# Altium footprint library NXP.PcbLib: 5 footprints (part 1 of 3)
Each footprint in its own frame and in the unit in brackets; x right, y up, seen from the top. Pads: shape width x height; smd on the part's side, far side on the other; paste and mask are expansions set on the pad; w line width, h text height; cw(c..) or ccw(c..) is an arc to the next point about the centre after c.
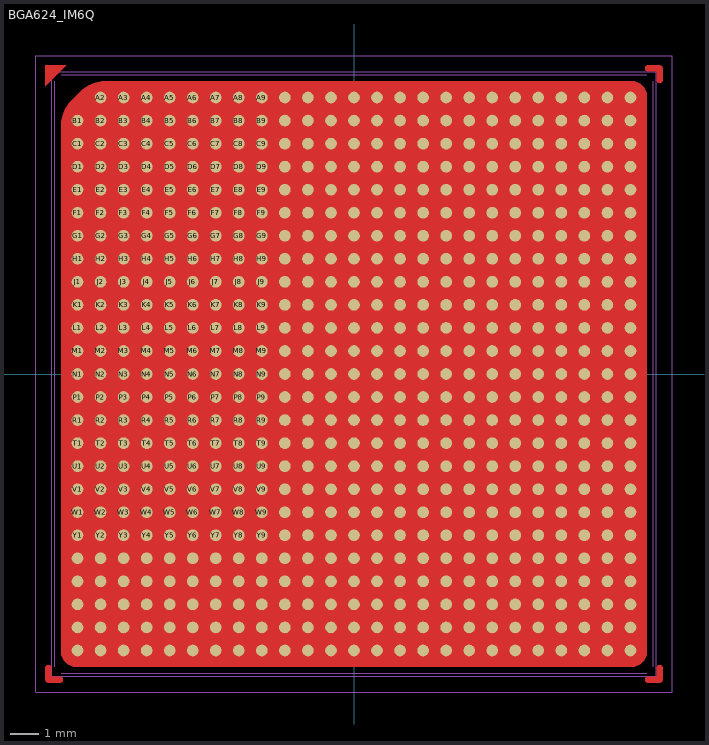
[diagram p0: the footprint, top view; thin cyan lines are the x and y axes]

## BGA624_IM6Q [mil]
pads (624):
  round 16 smd mask+2: A2(-346.46,377.95) A3(-314.96,377.95) A4(-283.46,377.95) A5(-251.97,377.95) A6(-220.47,377.95) A7(-188.98,377.95) A8(-157.48,377.95) A9(-125.98,377.95) A10(-94.49,377.95) A11(-62.99,377.95) A12(-31.5,377.95) A13(0,377.95) A14(31.5,377.95) A15(62.99,377.95) A16(94.49,377.95) A17(125.98,377.95) A18(157.48,377.95) A19(188.98,377.95) A20(220.47,377.95) A21(251.97,377.95) A22(283.46,377.95) A23(314.96,377.95) A24(346.46,377.95) A25(377.95,377.95) AA1(-377.95,-251.97) AA2(-346.46,-251.97) AA3(-314.96,-251.97) AA4(-283.46,-251.97) AA5(-251.97,-251.97) AA6(-220.47,-251.97) AA7(-188.98,-251.97) AA8(-157.48,-251.97) AA9(-125.98,-251.97) AA10(-94.49,-251.97) AA11(-62.99,-251.97) AA12(-31.5,-251.97) AA13(0,-251.97) AA14(31.5,-251.97) AA15(62.99,-251.97) AA16(94.49,-251.97) AA17(125.98,-251.97) AA18(157.48,-251.97) AA19(188.98,-251.97) AA20(220.47,-251.97) AA21(251.97,-251.97) AA22(283.46,-251.97) AA23(314.96,-251.97) AA24(346.46,-251.97) AA25(377.95,-251.97) AB1(-377.95,-283.46) AB2(-346.46,-283.46) AB3(-314.96,-283.46) AB4(-283.46,-283.46) AB5(-251.97,-283.46) AB6(-220.47,-283.46) AB7(-188.98,-283.46) AB8(-157.48,-283.46) AB9(-125.98,-283.46) AB10(-94.49,-283.46) AB11(-62.99,-283.46) AB12(-31.5,-283.46) AB13(0,-283.46) AB14(31.5,-283.46) AB15(62.99,-283.46) AB16(94.49,-283.46) AB17(125.98,-283.46) AB18(157.48,-283.46) AB19(188.98,-283.46) AB20(220.47,-283.46) AB21(251.97,-283.46) AB22(283.46,-283.46) AB23(314.96,-283.46) AB24(346.46,-283.46) AB25(377.95,-283.46) AC1(-377.95,-314.96) AC2(-346.46,-314.96) AC3(-314.96,-314.96) AC4(-283.46,-314.96) AC5(-251.97,-314.96) AC6(-220.47,-314.96) AC7(-188.98,-314.96) AC8(-157.48,-314.96) AC9(-125.98,-314.96) AC10(-94.49,-314.96) AC11(-62.99,-314.96) AC12(-31.5,-314.96) AC13(0,-314.96) AC14(31.5,-314.96) AC15(62.99,-314.96) AC16(94.49,-314.96) AC17(125.98,-314.96) AC18(157.48,-314.96) AC19(188.98,-314.96) AC20(220.47,-314.96) AC21(251.97,-314.96) AC22(283.46,-314.96) AC23(314.96,-314.96) AC24(346.46,-314.96) AC25(377.95,-314.96) AD1(-377.95,-346.46) AD2(-346.46,-346.46) AD3(-314.96,-346.46) AD4(-283.46,-346.46) AD5(-251.97,-346.46) AD6(-220.47,-346.46) AD7(-188.98,-346.46) AD8(-157.48,-346.46) AD9(-125.98,-346.46) AD10(-94.49,-346.46) AD11(-62.99,-346.46) AD12(-31.5,-346.46) AD13(0,-346.46) AD14(31.5,-346.46) AD15(62.99,-346.46) AD16(94.49,-346.46) AD17(125.98,-346.46) AD18(157.48,-346.46) AD19(188.98,-346.46) AD20(220.47,-346.46) AD21(251.97,-346.46) AD22(283.46,-346.46) AD23(314.96,-346.46) AD24(346.46,-346.46) AD25(377.95,-346.46) AE1(-377.95,-377.95) AE2(-346.46,-377.95) AE3(-314.96,-377.95) AE4(-283.46,-377.95) AE5(-251.97,-377.95) AE6(-220.47,-377.95) AE7(-188.98,-377.95) AE8(-157.48,-377.95) AE9(-125.98,-377.95) AE10(-94.49,-377.95) AE11(-62.99,-377.95) AE12(-31.5,-377.95) AE13(0,-377.95) AE14(31.5,-377.95) AE15(62.99,-377.95) AE16(94.49,-377.95) AE17(125.98,-377.95) AE18(157.48,-377.95) AE19(188.98,-377.95) AE20(220.47,-377.95) AE21(251.97,-377.95) AE22(283.46,-377.95) AE23(314.96,-377.95) AE24(346.46,-377.95) AE25(377.95,-377.95) B1(-377.95,346.46) B2(-346.46,346.46) B3(-314.96,346.46) B4(-283.46,346.46) B5(-251.97,346.46) B6(-220.47,346.46) B7(-188.98,346.46) B8(-157.48,346.46) B9(-125.98,346.46) B10(-94.49,346.46) B11(-62.99,346.46) B12(-31.5,346.46) B13(0,346.46) B14(31.5,346.46) B15(62.99,346.46) B16(94.49,346.46) B17(125.98,346.46) B18(157.48,346.46) B19(188.98,346.46) B20(220.47,346.46) B21(251.97,346.46) B22(283.46,346.46) B23(314.96,346.46) B24(346.46,346.46) B25(377.95,346.46) C1(-377.95,314.96) C2(-346.46,314.96) C3(-314.96,314.96) C4(-283.46,314.96) C5(-251.97,314.96) C6(-220.47,314.96) C7(-188.98,314.96) C8(-157.48,314.96) C9(-125.98,314.96) C10(-94.49,314.96) C11(-62.99,314.96) C12(-31.5,314.96) C13(0,314.96) C14(31.5,314.96) C15(62.99,314.96) C16(94.49,314.96) C17(125.98,314.96) C18(157.48,314.96) C19(188.98,314.96) C20(220.47,314.96) C21(251.97,314.96) C22(283.46,314.96) C23(314.96,314.96) C24(346.46,314.96) C25(377.95,314.96) D1(-377.95,283.46) D2(-346.46,283.46) D3(-314.96,283.46) D4(-283.46,283.46) D5(-251.97,283.46) D6(-220.47,283.46) D7(-188.98,283.46) D8(-157.48,283.46) D9(-125.98,283.46) D10(-94.49,283.46) D11(-62.99,283.46) D12(-31.5,283.46) D13(0,283.46) D14(31.5,283.46) D15(62.99,283.46) D16(94.49,283.46) D17(125.98,283.46) D18(157.48,283.46) D19(188.98,283.46) D20(220.47,283.46) D21(251.97,283.46) D22(283.46,283.46) D23(314.96,283.46) D24(346.46,283.46) D25(377.95,283.46) E1(-377.95,251.97) E2(-346.46,251.97) E3(-314.96,251.97) E4(-283.46,251.97) E5(-251.97,251.97) E6(-220.47,251.97) E7(-188.98,251.97) E8(-157.48,251.97) E9(-125.98,251.97) E10(-94.49,251.97) E11(-62.99,251.97) E12(-31.5,251.97) E13(0,251.97) E14(31.5,251.97) E15(62.99,251.97) E16(94.49,251.97) E17(125.98,251.97) E18(157.48,251.97) E19(188.98,251.97) E20(220.47,251.97) E21(251.97,251.97) E22(283.46,251.97) E23(314.96,251.97) E24(346.46,251.97) E25(377.95,251.97) F1(-377.95,220.47) F2(-346.46,220.47) F3(-314.96,220.47) F4(-283.46,220.47) F5(-251.97,220.47) F6(-220.47,220.47) F7(-188.98,220.47) F8(-157.48,220.47) F9(-125.98,220.47) F10(-94.49,220.47) F11(-62.99,220.47) F12(-31.5,220.47) F13(0,220.47) F14(31.5,220.47) F15(62.99,220.47) F16(94.49,220.47) F17(125.98,220.47) F18(157.48,220.47) F19(188.98,220.47) F20(220.47,220.47) F21(251.97,220.47) F22(283.46,220.47) F23(314.96,220.47) F24(346.46,220.47) F25(377.95,220.47) G1(-377.95,188.98) G2(-346.46,188.98) G3(-314.96,188.98) G4(-283.46,188.98) G5(-251.97,188.98) G6(-220.47,188.98) G7(-188.98,188.98) G8(-157.48,188.98) G9(-125.98,188.98) G10(-94.49,188.98) G11(-62.99,188.98) G12(-31.5,188.98) G13(0,188.98) G14(31.5,188.98) G15(62.99,188.98) G16(94.49,188.98) G17(125.98,188.98) G18(157.48,188.98) G19(188.98,188.98) G20(220.47,188.98) G21(251.97,188.98) G22(283.46,188.98) G23(314.96,188.98) G24(346.46,188.98) G25(377.95,188.98) H1(-377.95,157.48) H2(-346.46,157.48) H3(-314.96,157.48) H4(-283.46,157.48) H5(-251.97,157.48) H6(-220.47,157.48) H7(-188.98,157.48) H8(-157.48,157.48) H9(-125.98,157.48) H10(-94.49,157.48) H11(-62.99,157.48) H12(-31.5,157.48) H13(0,157.48) H14(31.5,157.48) H15(62.99,157.48) H16(94.49,157.48) H17(125.98,157.48) H18(157.48,157.48) H19(188.98,157.48) H20(220.47,157.48) H21(251.97,157.48) H22(283.46,157.48) H23(314.96,157.48) H24(346.46,157.48) H25(377.95,157.48) J1(-377.95,125.98) J2(-346.46,125.98) J3(-314.96,125.98) J4(-283.46,125.98) J5(-251.97,125.98) J6(-220.47,125.98) J7(-188.98,125.98) J8(-157.48,125.98) J9(-125.98,125.98) J10(-94.49,125.98) J11(-62.99,125.98) J12(-31.5,125.98) J13(0,125.98) J14(31.5,125.98) J15(62.99,125.98) J16(94.49,125.98) J17(125.98,125.98) J18(157.48,125.98) J19(188.98,125.98) J20(220.47,125.98) J21(251.97,125.98) J22(283.46,125.98) J23(314.96,125.98) J24(346.46,125.98) J25(377.95,125.98) K1(-377.95,94.49) K2(-346.46,94.49) K3(-314.96,94.49) K4(-283.46,94.49) K5(-251.97,94.49) K6(-220.47,94.49) K7(-188.98,94.49) K8(-157.48,94.49) K9(-125.98,94.49) K10(-94.49,94.49) K11(-62.99,94.49) K12(-31.5,94.49) K13(0,94.49) K14(31.5,94.49) K15(62.99,94.49) K16(94.49,94.49) K17(125.98,94.49) K18(157.48,94.49) K19(188.98,94.49) K20(220.47,94.49) K21(251.97,94.49) K22(283.46,94.49) K23(314.96,94.49) K24(346.46,94.49) K25(377.95,94.49) L1(-377.95,62.99) L2(-346.46,62.99) L3(-314.96,62.99) L4(-283.46,62.99) L5(-251.97,62.99) L6(-220.47,62.99) L7(-188.98,62.99) L8(-157.48,62.99) L9(-125.98,62.99) L10(-94.49,62.99) L11(-62.99,62.99) L12(-31.5,62.99) L13(0,62.99) L14(31.5,62.99) L15(62.99,62.99) L16(94.49,62.99) L17(125.98,62.99) L18(157.48,62.99) L19(188.98,62.99) L20(220.47,62.99) L21(251.97,62.99) L22(283.46,62.99) L23(314.96,62.99) L24(346.46,62.99) L25(377.95,62.99) M1(-377.95,31.5) M2(-346.46,31.5) M3(-314.96,31.5) M4(-283.46,31.5) M5(-251.97,31.5) M6(-220.47,31.5) M7(-188.98,31.5) M8(-157.48,31.5) M9(-125.98,31.5) M10(-94.49,31.5) M11(-62.99,31.5) M12(-31.5,31.5) M13(0,31.5) M14(31.5,31.5) M15(62.99,31.5) M16(94.49,31.5) M17(125.98,31.5) M18(157.48,31.5) M19(188.98,31.5) M20(220.47,31.5) M21(251.97,31.5) M22(283.46,31.5) M23(314.96,31.5) M24(346.46,31.5) M25(377.95,31.5) N1(-377.95,0) N2(-346.46,0) N3(-314.96,0) N4(-283.46,0) N5(-251.97,0) N6(-220.47,0) N7(-188.98,0) N8(-157.48,0) N9(-125.98,0) N10(-94.49,0) N11(-62.99,0) N12(-31.5,0) N13(0,0) N14(31.5,0) N15(62.99,0) N16(94.49,0) N17(125.98,0) N18(157.48,0) N19(188.98,0) N20(220.47,0) N21(251.97,0) N22(283.46,0) N23(314.96,0) N24(346.46,0) N25(377.95,0) P1(-377.95,-31.5) P2(-346.46,-31.5) P3(-314.96,-31.5) P4(-283.46,-31.5) P5(-251.97,-31.5) P6(-220.47,-31.5) P7(-188.98,-31.5) P8(-157.48,-31.5) P9(-125.98,-31.5) P10(-94.49,-31.5) P11(-62.99,-31.5) P12(-31.5,-31.5) P13(0,-31.5) P14(31.5,-31.5) P15(62.99,-31.5) P16(94.49,-31.5) P17(125.98,-31.5) P18(157.48,-31.5) P19(188.98,-31.5) P20(220.47,-31.5) P21(251.97,-31.5) P22(283.46,-31.5) P23(314.96,-31.5) P24(346.46,-31.5) P25(377.95,-31.5) R1(-377.95,-62.99) R2(-346.46,-62.99) R3(-314.96,-62.99) R4(-283.46,-62.99) R5(-251.97,-62.99) R6(-220.47,-62.99) R7(-188.98,-62.99) R8(-157.48,-62.99) R9(-125.98,-62.99) R10(-94.49,-62.99) R11(-62.99,-62.99) R12(-31.5,-62.99) R13(0,-62.99) R14(31.5,-62.99) R15(62.99,-62.99) R16(94.49,-62.99) R17(125.98,-62.99) R18(157.48,-62.99) R19(188.98,-62.99) R20(220.47,-62.99) R21(251.97,-62.99) R22(283.46,-62.99) R23(314.96,-62.99) R24(346.46,-62.99) R25(377.95,-62.99) T1(-377.95,-94.49) T2(-346.46,-94.49) T3(-314.96,-94.49) T4(-283.46,-94.49) T5(-251.97,-94.49) T6(-220.47,-94.49) T7(-188.98,-94.49) T8(-157.48,-94.49) T9(-125.98,-94.49) T10(-94.49,-94.49) T11(-62.99,-94.49) T12(-31.5,-94.49) T13(0,-94.49) T14(31.5,-94.49) T15(62.99,-94.49) T16(94.49,-94.49) T17(125.98,-94.49) T18(157.48,-94.49) T19(188.98,-94.49) T20(220.47,-94.49) T21(251.97,-94.49) T22(283.46,-94.49) T23(314.96,-94.49) T24(346.46,-94.49) T25(377.95,-94.49) U1(-377.95,-125.98) U2(-346.46,-125.98) U3(-314.96,-125.98) U4(-283.46,-125.98) U5(-251.97,-125.98) U6(-220.47,-125.98) U7(-188.98,-125.98) U8(-157.48,-125.98) U9(-125.98,-125.98) U10(-94.49,-125.98) U11(-62.99,-125.98) U12(-31.5,-125.98) U13(0,-125.98) U14(31.5,-125.98) U15(62.99,-125.98) U16(94.49,-125.98) U17(125.98,-125.98) U18(157.48,-125.98) U19(188.98,-125.98) U20(220.47,-125.98) U21(251.97,-125.98) U22(283.46,-125.98) U23(314.96,-125.98) U24(346.46,-125.98) U25(377.95,-125.98) V1(-377.95,-157.48) V2(-346.46,-157.48) V3(-314.96,-157.48) V4(-283.46,-157.48) V5(-251.97,-157.48) V6(-220.47,-157.48) V7(-188.98,-157.48) V8(-157.48,-157.48) V9(-125.98,-157.48) V10(-94.49,-157.48) V11(-62.99,-157.48) V12(-31.5,-157.48) V13(0,-157.48) V14(31.5,-157.48) V15(62.99,-157.48) V16(94.49,-157.48) V17(125.98,-157.48) V18(157.48,-157.48) V19(188.98,-157.48) V20(220.47,-157.48) V21(251.97,-157.48) V22(283.46,-157.48) V23(314.96,-157.48) V24(346.46,-157.48) V25(377.95,-157.48) W1(-377.95,-188.98) W2(-346.46,-188.98) W3(-314.96,-188.98) W4(-283.46,-188.98) W5(-251.97,-188.98) W6(-220.47,-188.98) W7(-188.98,-188.98) W8(-157.48,-188.98) W9(-125.98,-188.98) W10(-94.49,-188.98) W11(-62.99,-188.98) W12(-31.5,-188.98) W13(0,-188.98) W14(31.5,-188.98) W15(62.99,-188.98) W16(94.49,-188.98) W17(125.98,-188.98) W18(157.48,-188.98) W19(188.98,-188.98) W20(220.47,-188.98) W21(251.97,-188.98) W22(283.46,-188.98) W23(314.96,-188.98) W24(346.46,-188.98) W25(377.95,-188.98) Y1(-377.95,-220.47) Y2(-346.46,-220.47) Y3(-314.96,-220.47) Y4(-283.46,-220.47) Y5(-251.97,-220.47) Y6(-220.47,-220.47) Y7(-188.98,-220.47) Y8(-157.48,-220.47) Y9(-125.98,-220.47) Y10(-94.49,-220.47) Y11(-62.99,-220.47) Y12(-31.5,-220.47) Y13(0,-220.47) Y14(31.5,-220.47) Y15(62.99,-220.47) Y16(94.49,-220.47) Y17(125.98,-220.47) Y18(157.48,-220.47) Y19(188.98,-220.47) Y20(220.47,-220.47) Y21(251.97,-220.47) Y22(283.46,-220.47) Y23(314.96,-220.47) Y24(346.46,-220.47) Y25(377.95,-220.47)
Top Layer:
  region: -421.85,421.85 -421.85,393.31 -393.31,421.85
  region: 413.85,401.85 413.85,401.05 414.46,399.58 415.59,398.46 417.06,397.85 417.85,397.85 418.65,397.85 420.12,398.46 421.24,399.58 421.85,401.05 421.85,401.85 421.85,417.85 421.85,418.65 421.24,420.12 420.12,421.24 418.65,421.85 417.85,421.85 401.85,421.85 401.06,421.85 399.59,421.24 398.46,420.12 397.85,418.65 397.85,417.85 397.85,417.05 398.46,415.58 399.59,414.46 401.06,413.85 401.85,413.85 411.85,413.85 412.24,413.81 412.96,413.51 413.51,412.96 413.81,412.24 413.85,411.85
  region: 401.85,-413.85 401.06,-413.85 399.59,-414.46 398.46,-415.58 397.85,-417.05 397.85,-417.85 397.85,-418.65 398.46,-420.12 399.59,-421.24 401.06,-421.85 401.85,-421.85 417.85,-421.85 418.65,-421.85 420.12,-421.24 421.24,-420.12 421.85,-418.65 421.85,-417.85 421.85,-401.85 421.85,-401.05 421.24,-399.58 420.12,-398.46 418.65,-397.85 417.85,-397.85 417.06,-397.85 415.59,-398.46 414.46,-399.58 413.85,-401.05 413.85,-401.85 413.85,-411.85 413.81,-412.24 413.51,-412.96 412.96,-413.51 412.24,-413.81 411.85,-413.85
  region: -413.85,-401.85 -413.85,-401.05 -414.46,-399.58 -415.58,-398.46 -417.05,-397.85 -417.85,-397.85 -418.65,-397.85 -420.12,-398.46 -421.24,-399.58 -421.85,-401.05 -421.85,-401.85 -421.85,-417.85 -421.85,-418.65 -421.24,-420.12 -420.12,-421.24 -418.65,-421.85 -417.85,-421.85 -401.85,-421.85 -401.05,-421.85 -399.58,-421.24 -398.46,-420.12 -397.85,-418.65 -397.85,-417.85 -397.85,-417.05 -398.46,-415.58 -399.58,-414.46 -401.05,-413.85 -401.85,-413.85 -411.85,-413.85 -412.24,-413.81 -412.96,-413.51 -413.51,-412.96 -413.81,-412.24 -413.85,-411.85
  pour cut-out: -340,400 -344.76,400 -354.08,398.14 -362.87,394.5 -370.78,389.22 -374.14,385.86 -385.86,374.14 -389.22,370.78 -394.5,362.87 -398.14,354.08 -400,344.76 -400,340 -400,-380 -400,-383.98 -396.96,-391.33 -391.33,-396.96 -383.98,-400 -380,-400 380,-400 383.98,-400 391.33,-396.96 396.96,-391.33 400,-383.98 400,-380 400,380 400,383.98 396.96,391.33 391.33,396.96 383.98,400 380,400
Top Designator:
  text ".Designator" at -127.64,-12.5 h35
Top Component Center:
  lines w1: -3,-3 0,0 ; -3,3 0,0 ; 3,-3 0,0 ; 3,3 0,0
Top Courtyard:
  lines w1: -435,-435 435,-435 435,435 -435,435 -435,-435
Top Component Outline:
  lines w1: -409.45,-400 -409.45,400 ; -400,-409.45 400,-409.45 ; -400,409.45 400,409.45 ; -318.9,-290 -318.9,290 ; -290,-318.9 290,-318.9 ; -290,318.9 290,318.9 ; 318.9,-290 318.9,290 ; 409.45,-400 409.45,400 ; -413.39,-413.39 413.39,-413.39 413.39,413.39 -413.39,413.39 -413.39,-413.39
3D body: height 59.1, standoff 59, extent -389.88,360.04 -360,389.98
3D body: height 41.73, standoff 15.75, extent -413.39,-413.39 413.39,413.39
3D body: height 16.84, standoff -2.84, extent -356.26,368.22 -336.66,387.8
3D body: height 16.84, standoff -2.84, extent -324.76,368.22 -305.16,387.8
3D body: height 16.84, standoff -2.84, extent -293.27,368.22 -273.67,387.8
3D body: height 16.84, standoff -2.84, extent -261.77,368.22 -242.17,387.8
3D body: height 16.84, standoff -2.84, extent -135.79,368.22 -116.19,387.8
3D body: height 16.84, standoff -2.84, extent -167.28,368.22 -147.68,387.8
3D body: height 16.84, standoff -2.84, extent -198.78,368.22 -179.18,387.8
3D body: height 16.84, standoff -2.84, extent -230.28,368.22 -210.67,387.8
3D body: height 16.84, standoff -2.84, extent -9.8,368.22 9.8,387.8
3D body: height 16.84, standoff -2.84, extent -41.3,368.22 -21.7,387.8
3D body: height 16.84, standoff -2.84, extent -72.8,368.22 -53.19,387.8
3D body: height 16.84, standoff -2.84, extent -104.29,368.22 -84.69,387.8
3D body: height 16.84, standoff -2.84, extent 116.18,368.22 135.78,387.8
3D body: height 16.84, standoff -2.84, extent 84.68,368.22 104.29,387.8
3D body: height 16.84, standoff -2.84, extent 53.19,368.22 72.79,387.8
3D body: height 16.84, standoff -2.84, extent 21.69,368.22 41.3,387.8
3D body: height 16.84, standoff -2.84, extent 242.16,368.22 261.77,387.8
3D body: height 16.84, standoff -2.84, extent 210.67,368.22 230.27,387.8
3D body: height 16.84, standoff -2.84, extent 179.17,368.22 198.78,387.8
3D body: height 16.84, standoff -2.84, extent 147.68,368.22 167.28,387.8
3D body: height 16.84, standoff -2.84, extent 368.15,368.22 387.75,387.8
3D body: height 16.84, standoff -2.84, extent 336.65,368.22 356.26,387.8
3D body: height 16.84, standoff -2.84, extent 305.16,368.22 324.76,387.8
3D body: height 16.84, standoff -2.84, extent 273.66,368.22 293.26,387.8
3D body: height 16.84, standoff -2.84, extent 273.66,336.72 293.26,356.31
3D body: height 16.84, standoff -2.84, extent 305.16,336.72 324.76,356.31
3D body: height 16.84, standoff -2.84, extent 336.65,336.72 356.26,356.31
3D body: height 16.84, standoff -2.84, extent 368.15,336.72 387.75,356.31
3D body: height 16.84, standoff -2.84, extent 147.68,336.72 167.28,356.31
3D body: height 16.84, standoff -2.84, extent 179.17,336.72 198.78,356.31
3D body: height 16.84, standoff -2.84, extent 210.67,336.72 230.27,356.31
3D body: height 16.84, standoff -2.84, extent 242.16,336.72 261.77,356.31
3D body: height 16.84, standoff -2.84, extent 21.69,336.72 41.3,356.31
3D body: height 16.84, standoff -2.84, extent 53.19,336.72 72.79,356.31
3D body: height 16.84, standoff -2.84, extent 84.68,336.72 104.29,356.31
3D body: height 16.84, standoff -2.84, extent 116.18,336.72 135.78,356.31
3D body: height 16.84, standoff -2.84, extent -104.29,336.72 -84.69,356.31
3D body: height 16.84, standoff -2.84, extent -72.8,336.72 -53.19,356.31
3D body: height 16.84, standoff -2.84, extent -41.3,336.72 -21.7,356.31
3D body: height 16.84, standoff -2.84, extent -9.8,336.72 9.8,356.31
3D body: height 16.84, standoff -2.84, extent -230.28,336.72 -210.67,356.31
3D body: height 16.84, standoff -2.84, extent -198.78,336.72 -179.18,356.31
3D body: height 16.84, standoff -2.84, extent -167.28,336.72 -147.68,356.31
3D body: height 16.84, standoff -2.84, extent -135.79,336.72 -116.19,356.31
3D body: height 16.84, standoff -2.84, extent -261.77,336.72 -242.17,356.31
3D body: height 16.84, standoff -2.84, extent -293.27,336.72 -273.67,356.31
3D body: height 16.84, standoff -2.84, extent -324.76,336.72 -305.16,356.31
3D body: height 16.84, standoff -2.84, extent -356.26,336.72 -336.66,356.31
3D body: height 16.84, standoff -2.84, extent 273.66,305.23 293.26,324.81
3D body: height 16.84, standoff -2.84, extent 305.16,305.23 324.76,324.81
3D body: height 16.84, standoff -2.84, extent 336.65,305.23 356.26,324.81
3D body: height 16.84, standoff -2.84, extent 368.15,305.23 387.75,324.81
3D body: height 16.84, standoff -2.84, extent 147.68,305.23 167.28,324.81
3D body: height 16.84, standoff -2.84, extent 179.17,305.23 198.78,324.81
3D body: height 16.84, standoff -2.84, extent 210.67,305.23 230.27,324.81
3D body: height 16.84, standoff -2.84, extent 242.16,305.23 261.77,324.81
3D body: height 16.84, standoff -2.84, extent 21.69,305.23 41.3,324.81
3D body: height 16.84, standoff -2.84, extent 53.19,305.23 72.79,324.81
3D body: height 16.84, standoff -2.84, extent 84.68,305.23 104.29,324.81
3D body: height 16.84, standoff -2.84, extent 116.18,305.23 135.78,324.81
3D body: height 16.84, standoff -2.84, extent -104.29,305.23 -84.69,324.81
3D body: height 16.84, standoff -2.84, extent -72.8,305.23 -53.19,324.81
3D body: height 16.84, standoff -2.84, extent -41.3,305.23 -21.7,324.81
3D body: height 16.84, standoff -2.84, extent -9.8,305.23 9.8,324.81
3D body: height 16.84, standoff -2.84, extent -230.28,305.23 -210.67,324.81
3D body: height 16.84, standoff -2.84, extent -198.78,305.23 -179.18,324.81
3D body: height 16.84, standoff -2.84, extent -167.28,305.23 -147.68,324.81
3D body: height 16.84, standoff -2.84, extent -135.79,305.23 -116.19,324.81
3D body: height 16.84, standoff -2.84, extent -261.77,305.23 -242.17,324.81
3D body: height 16.84, standoff -2.84, extent -293.27,305.23 -273.67,324.81
3D body: height 16.84, standoff -2.84, extent -324.76,305.23 -305.16,324.81
3D body: height 16.84, standoff -2.84, extent -356.26,305.23 -336.66,324.81
3D body: height 16.84, standoff -2.84, extent 273.66,273.73 293.26,293.31
3D body: height 16.84, standoff -2.84, extent 305.16,273.73 324.76,293.31
3D body: height 16.84, standoff -2.84, extent 336.65,273.73 356.26,293.31
3D body: height 16.84, standoff -2.84, extent 368.15,273.73 387.75,293.31
3D body: height 16.84, standoff -2.84, extent 147.68,273.73 167.28,293.31
3D body: height 16.84, standoff -2.84, extent 179.17,273.73 198.78,293.31
3D body: height 16.84, standoff -2.84, extent 210.67,273.73 230.27,293.31
3D body: height 16.84, standoff -2.84, extent 242.16,273.73 261.77,293.31
3D body: height 16.84, standoff -2.84, extent 21.69,273.73 41.3,293.31
3D body: height 16.84, standoff -2.84, extent 53.19,273.73 72.79,293.31
3D body: height 16.84, standoff -2.84, extent 84.68,273.73 104.29,293.31
3D body: height 16.84, standoff -2.84, extent 116.18,273.73 135.78,293.31
3D body: height 16.84, standoff -2.84, extent -104.29,273.73 -84.69,293.31
3D body: height 16.84, standoff -2.84, extent -72.8,273.73 -53.19,293.31
3D body: height 16.84, standoff -2.84, extent -41.3,273.73 -21.7,293.31
3D body: height 16.84, standoff -2.84, extent -9.8,273.73 9.8,293.31
3D body: height 16.84, standoff -2.84, extent -230.28,273.73 -210.67,293.31
3D body: height 16.84, standoff -2.84, extent -198.78,273.73 -179.18,293.31
3D body: height 16.84, standoff -2.84, extent -167.28,273.73 -147.68,293.31
3D body: height 16.84, standoff -2.84, extent -135.79,273.73 -116.19,293.31
3D body: height 16.84, standoff -2.84, extent -261.77,273.73 -242.17,293.31
3D body: height 16.84, standoff -2.84, extent -293.27,273.73 -273.67,293.31
3D body: height 16.84, standoff -2.84, extent -324.76,273.73 -305.16,293.31
3D body: height 16.84, standoff -2.84, extent -356.26,273.73 -336.66,293.31
3D body: height 16.84, standoff -2.84, extent 273.66,242.23 293.26,261.82
3D body: height 16.84, standoff -2.84, extent 305.16,242.23 324.76,261.82
3D body: height 16.84, standoff -2.84, extent 336.65,242.23 356.26,261.82
3D body: height 16.84, standoff -2.84, extent 368.15,242.23 387.75,261.82
3D body: height 16.84, standoff -2.84, extent 147.68,242.23 167.28,261.82
3D body: height 16.84, standoff -2.84, extent 179.17,242.23 198.78,261.82
3D body: height 16.84, standoff -2.84, extent 210.67,242.23 230.27,261.82
3D body: height 16.84, standoff -2.84, extent 242.16,242.23 261.77,261.82
3D body: height 16.84, standoff -2.84, extent 21.69,242.23 41.3,261.82
3D body: height 16.84, standoff -2.84, extent 53.19,242.23 72.79,261.82
3D body: height 16.84, standoff -2.84, extent 84.68,242.23 104.29,261.82
3D body: height 16.84, standoff -2.84, extent 116.18,242.23 135.78,261.82
3D body: height 16.84, standoff -2.84, extent -104.29,242.23 -84.69,261.82
3D body: height 16.84, standoff -2.84, extent -72.8,242.23 -53.19,261.82
3D body: height 16.84, standoff -2.84, extent -41.3,242.23 -21.7,261.82
3D body: height 16.84, standoff -2.84, extent -9.8,242.23 9.8,261.82
3D body: height 16.84, standoff -2.84, extent -230.28,242.23 -210.67,261.82
3D body: height 16.84, standoff -2.84, extent -198.78,242.23 -179.18,261.82
3D body: height 16.84, standoff -2.84, extent -167.28,242.23 -147.68,261.82
3D body: height 16.84, standoff -2.84, extent -135.79,242.23 -116.19,261.82
3D body: height 16.84, standoff -2.84, extent -261.77,242.23 -242.17,261.82
3D body: height 16.84, standoff -2.84, extent -293.27,242.23 -273.67,261.82
3D body: height 16.84, standoff -2.84, extent -324.76,242.23 -305.16,261.82
3D body: height 16.84, standoff -2.84, extent -356.26,242.23 -336.66,261.82
3D body: height 16.84, standoff -2.84, extent -356.26,84.75 -336.66,104.34
3D body: height 16.84, standoff -2.84, extent -324.76,84.75 -305.16,104.34
3D body: height 16.84, standoff -2.84, extent -293.27,84.75 -273.67,104.34
3D body: height 16.84, standoff -2.84, extent -261.77,84.75 -242.17,104.34
3D body: height 16.84, standoff -2.84, extent -135.79,84.75 -116.19,104.34
3D body: height 16.84, standoff -2.84, extent -167.28,84.75 -147.68,104.34
3D body: height 16.84, standoff -2.84, extent -198.78,84.75 -179.18,104.34
3D body: height 16.84, standoff -2.84, extent -230.28,84.75 -210.67,104.34
3D body: height 16.84, standoff -2.84, extent -9.8,84.75 9.8,104.34
3D body: height 16.84, standoff -2.84, extent -41.3,84.75 -21.7,104.34
3D body: height 16.84, standoff -2.84, extent -72.8,84.75 -53.19,104.34
3D body: height 16.84, standoff -2.84, extent -104.29,84.75 -84.69,104.34
3D body: height 16.84, standoff -2.84, extent 116.18,84.75 135.78,104.34
3D body: height 16.84, standoff -2.84, extent 84.68,84.75 104.29,104.34
3D body: height 16.84, standoff -2.84, extent 53.19,84.75 72.79,104.34
3D body: height 16.84, standoff -2.84, extent 21.69,84.75 41.3,104.34
3D body: height 16.84, standoff -2.84, extent 242.16,84.75 261.77,104.34
3D body: height 16.84, standoff -2.84, extent 210.67,84.75 230.27,104.34
3D body: height 16.84, standoff -2.84, extent 179.17,84.75 198.78,104.34
3D body: height 16.84, standoff -2.84, extent 147.68,84.75 167.28,104.34
3D body: height 16.84, standoff -2.84, extent 368.15,84.75 387.75,104.34
3D body: height 16.84, standoff -2.84, extent 336.65,84.75 356.26,104.34
3D body: height 16.84, standoff -2.84, extent 305.16,84.75 324.76,104.34
3D body: height 16.84, standoff -2.84, extent 273.66,84.75 293.26,104.34
3D body: height 16.84, standoff -2.84, extent -356.26,116.25 -336.66,135.83
3D body: height 16.84, standoff -2.84, extent -324.76,116.25 -305.16,135.83
3D body: height 16.84, standoff -2.84, extent -293.27,116.25 -273.67,135.83
3D body: height 16.84, standoff -2.84, extent -261.77,116.25 -242.17,135.83
3D body: height 16.84, standoff -2.84, extent -135.79,116.25 -116.19,135.83
3D body: height 16.84, standoff -2.84, extent -167.28,116.25 -147.68,135.83
3D body: height 16.84, standoff -2.84, extent -198.78,116.25 -179.18,135.83
3D body: height 16.84, standoff -2.84, extent -230.28,116.25 -210.67,135.83
3D body: height 16.84, standoff -2.84, extent -9.8,116.25 9.8,135.83
3D body: height 16.84, standoff -2.84, extent -41.3,116.25 -21.7,135.83
3D body: height 16.84, standoff -2.84, extent -72.8,116.25 -53.19,135.83
3D body: height 16.84, standoff -2.84, extent -104.29,116.25 -84.69,135.83
3D body: height 16.84, standoff -2.84, extent 116.18,116.25 135.78,135.83
3D body: height 16.84, standoff -2.84, extent 84.68,116.25 104.29,135.83
3D body: height 16.84, standoff -2.84, extent 53.19,116.25 72.79,135.83
3D body: height 16.84, standoff -2.84, extent 21.69,116.25 41.3,135.83
3D body: height 16.84, standoff -2.84, extent 242.16,116.25 261.77,135.83
3D body: height 16.84, standoff -2.84, extent 210.67,116.25 230.27,135.83
3D body: height 16.84, standoff -2.84, extent 179.17,116.25 198.78,135.83
3D body: height 16.84, standoff -2.84, extent 147.68,116.25 167.28,135.83
3D body: height 16.84, standoff -2.84, extent 368.15,116.25 387.75,135.83
3D body: height 16.84, standoff -2.84, extent 336.65,116.25 356.26,135.83
3D body: height 16.84, standoff -2.84, extent 305.16,116.25 324.76,135.83
3D body: height 16.84, standoff -2.84, extent 273.66,116.25 293.26,135.83
3D body: height 16.84, standoff -2.84, extent -356.26,147.75 -336.66,167.33
3D body: height 16.84, standoff -2.84, extent -324.76,147.75 -305.16,167.33
3D body: height 16.84, standoff -2.84, extent -293.27,147.75 -273.67,167.33
3D body: height 16.84, standoff -2.84, extent -261.77,147.75 -242.17,167.33
3D body: height 16.84, standoff -2.84, extent -135.79,147.75 -116.19,167.33
3D body: height 16.84, standoff -2.84, extent -167.28,147.75 -147.68,167.33
3D body: height 16.84, standoff -2.84, extent -198.78,147.75 -179.18,167.33
3D body: height 16.84, standoff -2.84, extent -230.28,147.75 -210.67,167.33
3D body: height 16.84, standoff -2.84, extent -9.8,147.75 9.8,167.33
3D body: height 16.84, standoff -2.84, extent -41.3,147.75 -21.7,167.33
3D body: height 16.84, standoff -2.84, extent -72.8,147.75 -53.19,167.33
3D body: height 16.84, standoff -2.84, extent -104.29,147.75 -84.69,167.33
3D body: height 16.84, standoff -2.84, extent 116.18,147.75 135.78,167.33
3D body: height 16.84, standoff -2.84, extent 84.68,147.75 104.29,167.33
3D body: height 16.84, standoff -2.84, extent 53.19,147.75 72.79,167.33
3D body: height 16.84, standoff -2.84, extent 21.69,147.75 41.3,167.33
3D body: height 16.84, standoff -2.84, extent 242.16,147.75 261.77,167.33
3D body: height 16.84, standoff -2.84, extent 210.67,147.75 230.27,167.33
3D body: height 16.84, standoff -2.84, extent 179.17,147.75 198.78,167.33
3D body: height 16.84, standoff -2.84, extent 147.68,147.75 167.28,167.33
3D body: height 16.84, standoff -2.84, extent 368.15,147.75 387.75,167.33
3D body: height 16.84, standoff -2.84, extent 336.65,147.75 356.26,167.33
3D body: height 16.84, standoff -2.84, extent 305.16,147.75 324.76,167.33
3D body: height 16.84, standoff -2.84, extent 273.66,147.75 293.26,167.33
3D body: height 16.84, standoff -2.84, extent -356.26,179.24 -336.66,198.83
3D body: height 16.84, standoff -2.84, extent -324.76,179.24 -305.16,198.83
3D body: height 16.84, standoff -2.84, extent -293.27,179.24 -273.67,198.83
3D body: height 16.84, standoff -2.84, extent -261.77,179.24 -242.17,198.83
3D body: height 16.84, standoff -2.84, extent -135.79,179.24 -116.19,198.83
3D body: height 16.84, standoff -2.84, extent -167.28,179.24 -147.68,198.83
3D body: height 16.84, standoff -2.84, extent -198.78,179.24 -179.18,198.83
3D body: height 16.84, standoff -2.84, extent -230.28,179.24 -210.67,198.83
3D body: height 16.84, standoff -2.84, extent -9.8,179.24 9.8,198.83
3D body: height 16.84, standoff -2.84, extent -41.3,179.24 -21.7,198.83
3D body: height 16.84, standoff -2.84, extent -72.8,179.24 -53.19,198.83
3D body: height 16.84, standoff -2.84, extent -104.29,179.24 -84.69,198.83
3D body: height 16.84, standoff -2.84, extent 116.18,179.24 135.78,198.83
3D body: height 16.84, standoff -2.84, extent 84.68,179.24 104.29,198.83
3D body: height 16.84, standoff -2.84, extent 53.19,179.24 72.79,198.83
3D body: height 16.84, standoff -2.84, extent 21.69,179.24 41.3,198.83
3D body: height 16.84, standoff -2.84, extent 242.16,179.24 261.77,198.83
3D body: height 16.84, standoff -2.84, extent 210.67,179.24 230.27,198.83
3D body: height 16.84, standoff -2.84, extent 179.17,179.24 198.78,198.83
3D body: height 16.84, standoff -2.84, extent 147.68,179.24 167.28,198.83
3D body: height 16.84, standoff -2.84, extent 368.15,179.24 387.75,198.83
3D body: height 16.84, standoff -2.84, extent 336.65,179.24 356.26,198.83
3D body: height 16.84, standoff -2.84, extent 305.16,179.24 324.76,198.83
3D body: height 16.84, standoff -2.84, extent 273.66,179.24 293.26,198.83
3D body: height 16.84, standoff -2.84, extent 273.66,210.74 293.26,230.32
3D body: height 16.84, standoff -2.84, extent 305.16,210.74 324.76,230.32
3D body: height 16.84, standoff -2.84, extent 336.65,210.74 356.26,230.32
3D body: height 16.84, standoff -2.84, extent 368.15,210.74 387.75,230.32
3D body: height 16.84, standoff -2.84, extent 147.68,210.74 167.28,230.32
3D body: height 16.84, standoff -2.84, extent 179.17,210.74 198.78,230.32
3D body: height 16.84, standoff -2.84, extent 210.67,210.74 230.27,230.32
3D body: height 16.84, standoff -2.84, extent 242.16,210.74 261.77,230.32
3D body: height 16.84, standoff -2.84, extent 21.69,210.74 41.3,230.32
3D body: height 16.84, standoff -2.84, extent 53.19,210.74 72.79,230.32
3D body: height 16.84, standoff -2.84, extent 84.68,210.74 104.29,230.32
3D body: height 16.84, standoff -2.84, extent 116.18,210.74 135.78,230.32
3D body: height 16.84, standoff -2.84, extent -104.29,210.74 -84.69,230.32
3D body: height 16.84, standoff -2.84, extent -72.8,210.74 -53.19,230.32
3D body: height 16.84, standoff -2.84, extent -41.3,210.74 -21.7,230.32
3D body: height 16.84, standoff -2.84, extent -9.8,210.74 9.8,230.32
3D body: height 16.84, standoff -2.84, extent -230.28,210.74 -210.67,230.32
3D body: height 16.84, standoff -2.84, extent -198.78,210.74 -179.18,230.32
3D body: height 16.84, standoff -2.84, extent -167.28,210.74 -147.68,230.32
3D body: height 16.84, standoff -2.84, extent -135.79,210.74 -116.19,230.32
3D body: height 16.84, standoff -2.84, extent -261.77,210.74 -242.17,230.32
3D body: height 16.84, standoff -2.84, extent -293.27,210.74 -273.67,230.32
3D body: height 16.84, standoff -2.84, extent -324.76,210.74 -305.16,230.32
3D body: height 16.84, standoff -2.84, extent -356.26,210.74 -336.66,230.32
3D body: height 16.84, standoff -2.84, extent -356.26,-72.73 -336.66,-53.14
3D body: height 16.84, standoff -2.84, extent -324.76,-72.73 -305.16,-53.14
3D body: height 16.84, standoff -2.84, extent -293.27,-72.73 -273.67,-53.14
3D body: height 16.84, standoff -2.84, extent -261.77,-72.73 -242.17,-53.14
3D body: height 16.84, standoff -2.84, extent -135.79,-72.73 -116.19,-53.14
3D body: height 16.84, standoff -2.84, extent -167.28,-72.73 -147.68,-53.14
3D body: height 16.84, standoff -2.84, extent -198.78,-72.73 -179.18,-53.14
3D body: height 16.84, standoff -2.84, extent -230.28,-72.73 -210.67,-53.14
3D body: height 16.84, standoff -2.84, extent -9.8,-72.73 9.8,-53.14
3D body: height 16.84, standoff -2.84, extent -41.3,-72.73 -21.7,-53.14
3D body: height 16.84, standoff -2.84, extent -72.8,-72.73 -53.19,-53.14
3D body: height 16.84, standoff -2.84, extent -104.29,-72.73 -84.69,-53.14
3D body: height 16.84, standoff -2.84, extent 116.18,-72.73 135.78,-53.14
3D body: height 16.84, standoff -2.84, extent 84.68,-72.73 104.29,-53.14
3D body: height 16.84, standoff -2.84, extent 53.19,-72.73 72.79,-53.14
3D body: height 16.84, standoff -2.84, extent 21.69,-72.73 41.3,-53.14
3D body: height 16.84, standoff -2.84, extent 242.16,-72.73 261.77,-53.14
3D body: height 16.84, standoff -2.84, extent 210.67,-72.73 230.27,-53.14
3D body: height 16.84, standoff -2.84, extent 179.17,-72.73 198.78,-53.14
3D body: height 16.84, standoff -2.84, extent 147.68,-72.73 167.28,-53.14
3D body: height 16.84, standoff -2.84, extent 368.15,-72.73 387.75,-53.14
3D body: height 16.84, standoff -2.84, extent 336.65,-72.73 356.26,-53.14
3D body: height 16.84, standoff -2.84, extent 305.16,-72.73 324.76,-53.14
3D body: height 16.84, standoff -2.84, extent 273.66,-72.73 293.26,-53.14
3D body: height 16.84, standoff -2.84, extent -356.26,-41.23 -336.66,-21.65
3D body: height 16.84, standoff -2.84, extent -324.76,-41.23 -305.16,-21.65
3D body: height 16.84, standoff -2.84, extent -293.27,-41.23 -273.67,-21.65
3D body: height 16.84, standoff -2.84, extent -261.77,-41.23 -242.17,-21.65
3D body: height 16.84, standoff -2.84, extent -135.79,-41.23 -116.19,-21.65
3D body: height 16.84, standoff -2.84, extent -167.28,-41.23 -147.68,-21.65
3D body: height 16.84, standoff -2.84, extent -198.78,-41.23 -179.18,-21.65
3D body: height 16.84, standoff -2.84, extent -230.28,-41.23 -210.67,-21.65
3D body: height 16.84, standoff -2.84, extent -9.8,-41.23 9.8,-21.65
3D body: height 16.84, standoff -2.84, extent -41.3,-41.23 -21.7,-21.65
3D body: height 16.84, standoff -2.84, extent -72.8,-41.23 -53.19,-21.65
3D body: height 16.84, standoff -2.84, extent -104.29,-41.23 -84.69,-21.65
3D body: height 16.84, standoff -2.84, extent 116.18,-41.23 135.78,-21.65
3D body: height 16.84, standoff -2.84, extent 84.68,-41.23 104.29,-21.65
3D body: height 16.84, standoff -2.84, extent 53.19,-41.23 72.79,-21.65
3D body: height 16.84, standoff -2.84, extent 21.69,-41.23 41.3,-21.65
3D body: height 16.84, standoff -2.84, extent 242.16,-41.23 261.77,-21.65
3D body: height 16.84, standoff -2.84, extent 210.67,-41.23 230.27,-21.65
3D body: height 16.84, standoff -2.84, extent 179.17,-41.23 198.78,-21.65
3D body: height 16.84, standoff -2.84, extent 147.68,-41.23 167.28,-21.65
3D body: height 16.84, standoff -2.84, extent 368.15,-41.23 387.75,-21.65
3D body: height 16.84, standoff -2.84, extent 336.65,-41.23 356.26,-21.65
3D body: height 16.84, standoff -2.84, extent 305.16,-41.23 324.76,-21.65
3D body: height 16.84, standoff -2.84, extent 273.66,-41.23 293.26,-21.65
3D body: height 16.84, standoff -2.84, extent -356.26,-9.73 -336.66,9.85
3D body: height 16.84, standoff -2.84, extent -324.76,-9.73 -305.16,9.85
3D body: height 16.84, standoff -2.84, extent -293.27,-9.73 -273.67,9.85
3D body: height 16.84, standoff -2.84, extent -261.77,-9.73 -242.17,9.85
3D body: height 16.84, standoff -2.84, extent -135.79,-9.73 -116.19,9.85
3D body: height 16.84, standoff -2.84, extent -167.28,-9.73 -147.68,9.85
3D body: height 16.84, standoff -2.84, extent -198.78,-9.73 -179.18,9.85
3D body: height 16.84, standoff -2.84, extent -230.28,-9.73 -210.67,9.85
3D body: height 16.84, standoff -2.84, extent -9.8,-9.73 9.8,9.85
3D body: height 16.84, standoff -2.84, extent -41.3,-9.73 -21.7,9.85
3D body: height 16.84, standoff -2.84, extent -72.8,-9.73 -53.19,9.85
3D body: height 16.84, standoff -2.84, extent -104.29,-9.73 -84.69,9.85
3D body: height 16.84, standoff -2.84, extent 116.18,-9.73 135.78,9.85
3D body: height 16.84, standoff -2.84, extent 84.68,-9.73 104.29,9.85
3D body: height 16.84, standoff -2.84, extent 53.19,-9.73 72.79,9.85
3D body: height 16.84, standoff -2.84, extent 21.69,-9.73 41.3,9.85
3D body: height 16.84, standoff -2.84, extent 242.16,-9.73 261.77,9.85
3D body: height 16.84, standoff -2.84, extent 210.67,-9.73 230.27,9.85
3D body: height 16.84, standoff -2.84, extent 179.17,-9.73 198.78,9.85
3D body: height 16.84, standoff -2.84, extent 147.68,-9.73 167.28,9.85
3D body: height 16.84, standoff -2.84, extent 368.15,-9.73 387.75,9.85
3D body: height 16.84, standoff -2.84, extent 336.65,-9.73 356.26,9.85
3D body: height 16.84, standoff -2.84, extent 305.16,-9.73 324.76,9.85
3D body: height 16.84, standoff -2.84, extent 273.66,-9.73 293.26,9.85
3D body: height 16.84, standoff -2.84, extent -356.26,21.76 -336.66,41.35
3D body: height 16.84, standoff -2.84, extent -324.76,21.76 -305.16,41.35
3D body: height 16.84, standoff -2.84, extent -293.27,21.76 -273.67,41.35
3D body: height 16.84, standoff -2.84, extent -261.77,21.76 -242.17,41.35
3D body: height 16.84, standoff -2.84, extent -135.79,21.76 -116.19,41.35
3D body: height 16.84, standoff -2.84, extent -167.28,21.76 -147.68,41.35
3D body: height 16.84, standoff -2.84, extent -198.78,21.76 -179.18,41.35
3D body: height 16.84, standoff -2.84, extent -230.28,21.76 -210.67,41.35
3D body: height 16.84, standoff -2.84, extent -9.8,21.76 9.8,41.35
3D body: height 16.84, standoff -2.84, extent -41.3,21.76 -21.7,41.35
3D body: height 16.84, standoff -2.84, extent -72.8,21.76 -53.19,41.35
3D body: height 16.84, standoff -2.84, extent -104.29,21.76 -84.69,41.35
3D body: height 16.84, standoff -2.84, extent 116.18,21.76 135.78,41.35
3D body: height 16.84, standoff -2.84, extent 84.68,21.76 104.29,41.35
3D body: height 16.84, standoff -2.84, extent 53.19,21.76 72.79,41.35
3D body: height 16.84, standoff -2.84, extent 21.69,21.76 41.3,41.35
3D body: height 16.84, standoff -2.84, extent 242.16,21.76 261.77,41.35
3D body: height 16.84, standoff -2.84, extent 210.67,21.76 230.27,41.35
3D body: height 16.84, standoff -2.84, extent 179.17,21.76 198.78,41.35
3D body: height 16.84, standoff -2.84, extent 147.68,21.76 167.28,41.35
3D body: height 16.84, standoff -2.84, extent 368.15,21.76 387.75,41.35
3D body: height 16.84, standoff -2.84, extent 336.65,21.76 356.26,41.35
3D body: height 16.84, standoff -2.84, extent 305.16,21.76 324.76,41.35
3D body: height 16.84, standoff -2.84, extent 273.66,21.76 293.26,41.35
3D body: height 16.84, standoff -2.84, extent 273.66,53.26 293.26,72.84
3D body: height 16.84, standoff -2.84, extent 305.16,53.26 324.76,72.84
3D body: height 16.84, standoff -2.84, extent 336.65,53.26 356.26,72.84
3D body: height 16.84, standoff -2.84, extent 368.15,53.26 387.75,72.84
3D body: height 16.84, standoff -2.84, extent 147.68,53.26 167.28,72.84
3D body: height 16.84, standoff -2.84, extent 179.17,53.26 198.78,72.84
3D body: height 16.84, standoff -2.84, extent 210.67,53.26 230.27,72.84
3D body: height 16.84, standoff -2.84, extent 242.16,53.26 261.77,72.84
3D body: height 16.84, standoff -2.84, extent 21.69,53.26 41.3,72.84
3D body: height 16.84, standoff -2.84, extent 53.19,53.26 72.79,72.84
3D body: height 16.84, standoff -2.84, extent 84.68,53.26 104.29,72.84
3D body: height 16.84, standoff -2.84, extent 116.18,53.26 135.78,72.84
3D body: height 16.84, standoff -2.84, extent -104.29,53.26 -84.69,72.84
3D body: height 16.84, standoff -2.84, extent -72.8,53.26 -53.19,72.84
3D body: height 16.84, standoff -2.84, extent -41.3,53.26 -21.7,72.84
3D body: height 16.84, standoff -2.84, extent -9.8,53.26 9.8,72.84
3D body: height 16.84, standoff -2.84, extent -230.28,53.26 -210.67,72.84
3D body: height 16.84, standoff -2.84, extent -198.78,53.26 -179.18,72.84
3D body: height 16.84, standoff -2.84, extent -167.28,53.26 -147.68,72.84
3D body: height 16.84, standoff -2.84, extent -135.79,53.26 -116.19,72.84
3D body: height 16.84, standoff -2.84, extent -261.77,53.26 -242.17,72.84
3D body: height 16.84, standoff -2.84, extent -293.27,53.26 -273.67,72.84
3D body: height 16.84, standoff -2.84, extent -324.76,53.26 -305.16,72.84
3D body: height 16.84, standoff -2.84, extent -356.26,53.26 -336.66,72.84
3D body: height 16.84, standoff -2.84, extent -356.26,-230.21 -336.66,-210.62
3D body: height 16.84, standoff -2.84, extent -324.76,-230.21 -305.16,-210.62
3D body: height 16.84, standoff -2.84, extent -293.27,-230.21 -273.67,-210.62
3D body: height 16.84, standoff -2.84, extent -261.77,-230.21 -242.17,-210.62
3D body: height 16.84, standoff -2.84, extent -135.79,-230.21 -116.19,-210.62
3D body: height 16.84, standoff -2.84, extent -167.28,-230.21 -147.68,-210.62
3D body: height 16.84, standoff -2.84, extent -198.78,-230.21 -179.18,-210.62
3D body: height 16.84, standoff -2.84, extent -230.28,-230.21 -210.67,-210.62
3D body: height 16.84, standoff -2.84, extent -9.8,-230.21 9.8,-210.62
3D body: height 16.84, standoff -2.84, extent -41.3,-230.21 -21.7,-210.62
3D body: height 16.84, standoff -2.84, extent -72.8,-230.21 -53.19,-210.62
3D body: height 16.84, standoff -2.84, extent -104.29,-230.21 -84.69,-210.62
3D body: height 16.84, standoff -2.84, extent 116.18,-230.21 135.78,-210.62
3D body: height 16.84, standoff -2.84, extent 84.68,-230.21 104.29,-210.62
3D body: height 16.84, standoff -2.84, extent 53.19,-230.21 72.79,-210.62
3D body: height 16.84, standoff -2.84, extent 21.69,-230.21 41.3,-210.62
3D body: height 16.84, standoff -2.84, extent 242.16,-230.21 261.77,-210.62
3D body: height 16.84, standoff -2.84, extent 210.67,-230.21 230.27,-210.62
3D body: height 16.84, standoff -2.84, extent 179.17,-230.21 198.78,-210.62
3D body: height 16.84, standoff -2.84, extent 147.68,-230.21 167.28,-210.62
3D body: height 16.84, standoff -2.84, extent 368.15,-230.21 387.75,-210.62
3D body: height 16.84, standoff -2.84, extent 336.65,-230.21 356.26,-210.62
3D body: height 16.84, standoff -2.84, extent 305.16,-230.21 324.76,-210.62
3D body: height 16.84, standoff -2.84, extent 273.66,-230.21 293.26,-210.62
3D body: height 16.84, standoff -2.84, extent -356.26,-198.71 -336.66,-179.13
3D body: height 16.84, standoff -2.84, extent -324.76,-198.71 -305.16,-179.13
3D body: height 16.84, standoff -2.84, extent -293.27,-198.71 -273.67,-179.13
3D body: height 16.84, standoff -2.84, extent -261.77,-198.71 -242.17,-179.13
3D body: height 16.84, standoff -2.84, extent -135.79,-198.71 -116.19,-179.13
3D body: height 16.84, standoff -2.84, extent -167.28,-198.71 -147.68,-179.13
3D body: height 16.84, standoff -2.84, extent -198.78,-198.71 -179.18,-179.13
3D body: height 16.84, standoff -2.84, extent -230.28,-198.71 -210.67,-179.13
3D body: height 16.84, standoff -2.84, extent -9.8,-198.71 9.8,-179.13
3D body: height 16.84, standoff -2.84, extent -41.3,-198.71 -21.7,-179.13
3D body: height 16.84, standoff -2.84, extent -72.8,-198.71 -53.19,-179.13
3D body: height 16.84, standoff -2.84, extent -104.29,-198.71 -84.69,-179.13
3D body: height 16.84, standoff -2.84, extent 116.18,-198.71 135.78,-179.13
3D body: height 16.84, standoff -2.84, extent 84.68,-198.71 104.29,-179.13
3D body: height 16.84, standoff -2.84, extent 53.19,-198.71 72.79,-179.13
3D body: height 16.84, standoff -2.84, extent 21.69,-198.71 41.3,-179.13
3D body: height 16.84, standoff -2.84, extent 242.16,-198.71 261.77,-179.13
3D body: height 16.84, standoff -2.84, extent 210.67,-198.71 230.27,-179.13
3D body: height 16.84, standoff -2.84, extent 179.17,-198.71 198.78,-179.13
3D body: height 16.84, standoff -2.84, extent 147.68,-198.71 167.28,-179.13
3D body: height 16.84, standoff -2.84, extent 368.15,-198.71 387.75,-179.13
3D body: height 16.84, standoff -2.84, extent 336.65,-198.71 356.26,-179.13
3D body: height 16.84, standoff -2.84, extent 305.16,-198.71 324.76,-179.13
3D body: height 16.84, standoff -2.84, extent 273.66,-198.71 293.26,-179.13
3D body: height 16.84, standoff -2.84, extent -356.26,-167.21 -336.66,-147.63
3D body: height 16.84, standoff -2.84, extent -324.76,-167.21 -305.16,-147.63
3D body: height 16.84, standoff -2.84, extent -293.27,-167.21 -273.67,-147.63
3D body: height 16.84, standoff -2.84, extent -261.77,-167.21 -242.17,-147.63
3D body: height 16.84, standoff -2.84, extent -135.79,-167.21 -116.19,-147.63
3D body: height 16.84, standoff -2.84, extent -167.28,-167.21 -147.68,-147.63
3D body: height 16.84, standoff -2.84, extent -198.78,-167.21 -179.18,-147.63
3D body: height 16.84, standoff -2.84, extent -230.28,-167.21 -210.67,-147.63
3D body: height 16.84, standoff -2.84, extent -9.8,-167.21 9.8,-147.63
3D body: height 16.84, standoff -2.84, extent -41.3,-167.21 -21.7,-147.63
3D body: height 16.84, standoff -2.84, extent -72.8,-167.21 -53.19,-147.63
3D body: height 16.84, standoff -2.84, extent -104.29,-167.21 -84.69,-147.63
3D body: height 16.84, standoff -2.84, extent 116.18,-167.21 135.78,-147.63
3D body: height 16.84, standoff -2.84, extent 84.68,-167.21 104.29,-147.63
3D body: height 16.84, standoff -2.84, extent 53.19,-167.21 72.79,-147.63
3D body: height 16.84, standoff -2.84, extent 21.69,-167.21 41.3,-147.63
3D body: height 16.84, standoff -2.84, extent 242.16,-167.21 261.77,-147.63
3D body: height 16.84, standoff -2.84, extent 210.67,-167.21 230.27,-147.63
3D body: height 16.84, standoff -2.84, extent 179.17,-167.21 198.78,-147.63
3D body: height 16.84, standoff -2.84, extent 147.68,-167.21 167.28,-147.63
3D body: height 16.84, standoff -2.84, extent 368.15,-167.21 387.75,-147.63
3D body: height 16.84, standoff -2.84, extent 336.65,-167.21 356.26,-147.63
3D body: height 16.84, standoff -2.84, extent 305.16,-167.21 324.76,-147.63
3D body: height 16.84, standoff -2.84, extent 273.66,-167.21 293.26,-147.63
3D body: height 16.84, standoff -2.84, extent -356.26,-135.72 -336.66,-116.13
3D body: height 16.84, standoff -2.84, extent -324.76,-135.72 -305.16,-116.13
3D body: height 16.84, standoff -2.84, extent -293.27,-135.72 -273.67,-116.13
3D body: height 16.84, standoff -2.84, extent -261.77,-135.72 -242.17,-116.13
3D body: height 16.84, standoff -2.84, extent -135.79,-135.72 -116.19,-116.13
3D body: height 16.84, standoff -2.84, extent -167.28,-135.72 -147.68,-116.13
3D body: height 16.84, standoff -2.84, extent -198.78,-135.72 -179.18,-116.13
3D body: height 16.84, standoff -2.84, extent -230.28,-135.72 -210.67,-116.13
3D body: height 16.84, standoff -2.84, extent -9.8,-135.72 9.8,-116.13
3D body: height 16.84, standoff -2.84, extent -41.3,-135.72 -21.7,-116.13
3D body: height 16.84, standoff -2.84, extent -72.8,-135.72 -53.19,-116.13
3D body: height 16.84, standoff -2.84, extent -104.29,-135.72 -84.69,-116.13
3D body: height 16.84, standoff -2.84, extent 116.18,-135.72 135.78,-116.13
3D body: height 16.84, standoff -2.84, extent 84.68,-135.72 104.29,-116.13
3D body: height 16.84, standoff -2.84, extent 53.19,-135.72 72.79,-116.13
3D body: height 16.84, standoff -2.84, extent 21.69,-135.72 41.3,-116.13
3D body: height 16.84, standoff -2.84, extent 242.16,-135.72 261.77,-116.13
3D body: height 16.84, standoff -2.84, extent 210.67,-135.72 230.27,-116.13
3D body: height 16.84, standoff -2.84, extent 179.17,-135.72 198.78,-116.13
3D body: height 16.84, standoff -2.84, extent 147.68,-135.72 167.28,-116.13
3D body: height 16.84, standoff -2.84, extent 368.15,-135.72 387.75,-116.13
3D body: height 16.84, standoff -2.84, extent 336.65,-135.72 356.26,-116.13
3D body: height 16.84, standoff -2.84, extent 305.16,-135.72 324.76,-116.13
3D body: height 16.84, standoff -2.84, extent 273.66,-135.72 293.26,-116.13
3D body: height 16.84, standoff -2.84, extent 273.66,-104.22 293.26,-84.64
3D body: height 16.84, standoff -2.84, extent 305.16,-104.22 324.76,-84.64
3D body: height 16.84, standoff -2.84, extent 336.65,-104.22 356.26,-84.64
3D body: height 16.84, standoff -2.84, extent 368.15,-104.22 387.75,-84.64
3D body: height 16.84, standoff -2.84, extent 147.68,-104.22 167.28,-84.64
3D body: height 16.84, standoff -2.84, extent 179.17,-104.22 198.78,-84.64
3D body: height 16.84, standoff -2.84, extent 210.67,-104.22 230.27,-84.64
3D body: height 16.84, standoff -2.84, extent 242.16,-104.22 261.77,-84.64
3D body: height 16.84, standoff -2.84, extent 21.69,-104.22 41.3,-84.64
3D body: height 16.84, standoff -2.84, extent 53.19,-104.22 72.79,-84.64
3D body: height 16.84, standoff -2.84, extent 84.68,-104.22 104.29,-84.64
3D body: height 16.84, standoff -2.84, extent 116.18,-104.22 135.78,-84.64
3D body: height 16.84, standoff -2.84, extent -104.29,-104.22 -84.69,-84.64
3D body: height 16.84, standoff -2.84, extent -72.8,-104.22 -53.19,-84.64
3D body: height 16.84, standoff -2.84, extent -41.3,-104.22 -21.7,-84.64
3D body: height 16.84, standoff -2.84, extent -9.8,-104.22 9.8,-84.64
3D body: height 16.84, standoff -2.84, extent -230.28,-104.22 -210.67,-84.64
3D body: height 16.84, standoff -2.84, extent -198.78,-104.22 -179.18,-84.64
3D body: height 16.84, standoff -2.84, extent -167.28,-104.22 -147.68,-84.64
3D body: height 16.84, standoff -2.84, extent -135.79,-104.22 -116.19,-84.64
3D body: height 16.84, standoff -2.84, extent -261.77,-104.22 -242.17,-84.64
3D body: height 16.84, standoff -2.84, extent -293.27,-104.22 -273.67,-84.64
3D body: height 16.84, standoff -2.84, extent -324.76,-104.22 -305.16,-84.64
3D body: height 16.84, standoff -2.84, extent -356.26,-104.22 -336.66,-84.64
3D body: height 16.84, standoff -2.84, extent -356.26,-387.69 -336.66,-368.1
3D body: height 16.84, standoff -2.84, extent -324.76,-387.69 -305.16,-368.1
3D body: height 16.84, standoff -2.84, extent -293.27,-387.69 -273.67,-368.1
3D body: height 16.84, standoff -2.84, extent -261.77,-387.69 -242.17,-368.1
3D body: height 16.84, standoff -2.84, extent -135.79,-387.69 -116.19,-368.1
3D body: height 16.84, standoff -2.84, extent -167.28,-387.69 -147.68,-368.1
3D body: height 16.84, standoff -2.84, extent -198.78,-387.69 -179.18,-368.1
3D body: height 16.84, standoff -2.84, extent -230.28,-387.69 -210.67,-368.1
3D body: height 16.84, standoff -2.84, extent -9.8,-387.69 9.8,-368.1
3D body: height 16.84, standoff -2.84, extent -41.3,-387.69 -21.7,-368.1
3D body: height 16.84, standoff -2.84, extent -72.8,-387.69 -53.19,-368.1
3D body: height 16.84, standoff -2.84, extent -104.29,-387.69 -84.69,-368.1
3D body: height 16.84, standoff -2.84, extent 116.18,-387.69 135.78,-368.1
3D body: height 16.84, standoff -2.84, extent 84.68,-387.69 104.29,-368.1
3D body: height 16.84, standoff -2.84, extent 53.19,-387.69 72.79,-368.1
3D body: height 16.84, standoff -2.84, extent 21.69,-387.69 41.3,-368.1
3D body: height 16.84, standoff -2.84, extent 242.16,-387.69 261.77,-368.1
3D body: height 16.84, standoff -2.84, extent 210.67,-387.69 230.27,-368.1
3D body: height 16.84, standoff -2.84, extent 179.17,-387.69 198.78,-368.1
3D body: height 16.84, standoff -2.84, extent 147.68,-387.69 167.28,-368.1
3D body: height 16.84, standoff -2.84, extent 368.15,-387.69 387.75,-368.1
3D body: height 16.84, standoff -2.84, extent 336.65,-387.69 356.26,-368.1
3D body: height 16.84, standoff -2.84, extent 305.16,-387.69 324.76,-368.1
3D body: height 16.84, standoff -2.84, extent 273.66,-387.69 293.26,-368.1
3D body: height 16.84, standoff -2.84, extent -356.26,-356.19 -336.66,-336.61
3D body: height 16.84, standoff -2.84, extent -324.76,-356.19 -305.16,-336.61
3D body: height 16.84, standoff -2.84, extent -293.27,-356.19 -273.67,-336.61
3D body: height 16.84, standoff -2.84, extent -261.77,-356.19 -242.17,-336.61
3D body: height 16.84, standoff -2.84, extent -135.79,-356.19 -116.19,-336.61
3D body: height 16.84, standoff -2.84, extent -167.28,-356.19 -147.68,-336.61
3D body: height 16.84, standoff -2.84, extent -198.78,-356.19 -179.18,-336.61
3D body: height 16.84, standoff -2.84, extent -230.28,-356.19 -210.67,-336.61
3D body: height 16.84, standoff -2.84, extent -9.8,-356.19 9.8,-336.61
3D body: height 16.84, standoff -2.84, extent -41.3,-356.19 -21.7,-336.61
3D body: height 16.84, standoff -2.84, extent -72.8,-356.19 -53.19,-336.61
3D body: height 16.84, standoff -2.84, extent -104.29,-356.19 -84.69,-336.61
3D body: height 16.84, standoff -2.84, extent 116.18,-356.19 135.78,-336.61
3D body: height 16.84, standoff -2.84, extent 84.68,-356.19 104.29,-336.61
3D body: height 16.84, standoff -2.84, extent 53.19,-356.19 72.79,-336.61
3D body: height 16.84, standoff -2.84, extent 21.69,-356.19 41.3,-336.61
3D body: height 16.84, standoff -2.84, extent 242.16,-356.19 261.77,-336.61
3D body: height 16.84, standoff -2.84, extent 210.67,-356.19 230.27,-336.61
3D body: height 16.84, standoff -2.84, extent 179.17,-356.19 198.78,-336.61
3D body: height 16.84, standoff -2.84, extent 147.68,-356.19 167.28,-336.61
3D body: height 16.84, standoff -2.84, extent 368.15,-356.19 387.75,-336.61
3D body: height 16.84, standoff -2.84, extent 336.65,-356.19 356.26,-336.61
3D body: height 16.84, standoff -2.84, extent 305.16,-356.19 324.76,-336.61
3D body: height 16.84, standoff -2.84, extent 273.66,-356.19 293.26,-336.61
3D body: height 16.84, standoff -2.84, extent -356.26,-324.7 -336.66,-305.11
3D body: height 16.84, standoff -2.84, extent -324.76,-324.7 -305.16,-305.11
3D body: height 16.84, standoff -2.84, extent -293.27,-324.7 -273.67,-305.11
3D body: height 16.84, standoff -2.84, extent -261.77,-324.7 -242.17,-305.11
3D body: height 16.84, standoff -2.84, extent -135.79,-324.7 -116.19,-305.11
3D body: height 16.84, standoff -2.84, extent -167.28,-324.7 -147.68,-305.11
3D body: height 16.84, standoff -2.84, extent -198.78,-324.7 -179.18,-305.11
3D body: height 16.84, standoff -2.84, extent -230.28,-324.7 -210.67,-305.11
3D body: height 16.84, standoff -2.84, extent -9.8,-324.7 9.8,-305.11
3D body: height 16.84, standoff -2.84, extent -41.3,-324.7 -21.7,-305.11
3D body: height 16.84, standoff -2.84, extent -72.8,-324.7 -53.19,-305.11
3D body: height 16.84, standoff -2.84, extent -104.29,-324.7 -84.69,-305.11
3D body: height 16.84, standoff -2.84, extent 116.18,-324.7 135.78,-305.11
3D body: height 16.84, standoff -2.84, extent 84.68,-324.7 104.29,-305.11
3D body: height 16.84, standoff -2.84, extent 53.19,-324.7 72.79,-305.11
3D body: height 16.84, standoff -2.84, extent 21.69,-324.7 41.3,-305.11
3D body: height 16.84, standoff -2.84, extent 242.16,-324.7 261.77,-305.11
3D body: height 16.84, standoff -2.84, extent 210.67,-324.7 230.27,-305.11
3D body: height 16.84, standoff -2.84, extent 179.17,-324.7 198.78,-305.11
3D body: height 16.84, standoff -2.84, extent 147.68,-324.7 167.28,-305.11
3D body: height 16.84, standoff -2.84, extent 368.15,-324.7 387.75,-305.11
3D body: height 16.84, standoff -2.84, extent 336.65,-324.7 356.26,-305.11
3D body: height 16.84, standoff -2.84, extent 305.16,-324.7 324.76,-305.11
3D body: height 16.84, standoff -2.84, extent 273.66,-324.7 293.26,-305.11
3D body: height 16.84, standoff -2.84, extent -356.26,-293.2 -336.66,-273.62
3D body: height 16.84, standoff -2.84, extent -324.76,-293.2 -305.16,-273.62
3D body: height 16.84, standoff -2.84, extent -293.27,-293.2 -273.67,-273.62
3D body: height 16.84, standoff -2.84, extent -261.77,-293.2 -242.17,-273.62
3D body: height 16.84, standoff -2.84, extent -135.79,-293.2 -116.19,-273.62
3D body: height 16.84, standoff -2.84, extent -167.28,-293.2 -147.68,-273.62
3D body: height 16.84, standoff -2.84, extent -198.78,-293.2 -179.18,-273.62
3D body: height 16.84, standoff -2.84, extent -230.28,-293.2 -210.67,-273.62
3D body: height 16.84, standoff -2.84, extent -9.8,-293.2 9.8,-273.62
3D body: height 16.84, standoff -2.84, extent -41.3,-293.2 -21.7,-273.62
3D body: height 16.84, standoff -2.84, extent -72.8,-293.2 -53.19,-273.62
3D body: height 16.84, standoff -2.84, extent -104.29,-293.2 -84.69,-273.62
3D body: height 16.84, standoff -2.84, extent 116.18,-293.2 135.78,-273.62
3D body: height 16.84, standoff -2.84, extent 84.68,-293.2 104.29,-273.62
3D body: height 16.84, standoff -2.84, extent 53.19,-293.2 72.79,-273.62
3D body: height 16.84, standoff -2.84, extent 21.69,-293.2 41.3,-273.62
3D body: height 16.84, standoff -2.84, extent 242.16,-293.2 261.77,-273.62
3D body: height 16.84, standoff -2.84, extent 210.67,-293.2 230.27,-273.62
3D body: height 16.84, standoff -2.84, extent 179.17,-293.2 198.78,-273.62
3D body: height 16.84, standoff -2.84, extent 147.68,-293.2 167.28,-273.62
3D body: height 16.84, standoff -2.84, extent 368.15,-293.2 387.75,-273.62
3D body: height 16.84, standoff -2.84, extent 336.65,-293.2 356.26,-273.62
3D body: height 16.84, standoff -2.84, extent 305.16,-293.2 324.76,-273.62
3D body: height 16.84, standoff -2.84, extent 273.66,-293.2 293.26,-273.62
3D body: height 16.84, standoff -2.84, extent 273.66,-261.7 293.26,-242.12
3D body: height 16.84, standoff -2.84, extent 305.16,-261.7 324.76,-242.12
3D body: height 16.84, standoff -2.84, extent 336.65,-261.7 356.26,-242.12
3D body: height 16.84, standoff -2.84, extent 368.15,-261.7 387.75,-242.12
3D body: height 16.84, standoff -2.84, extent 147.68,-261.7 167.28,-242.12
3D body: height 16.84, standoff -2.84, extent 179.17,-261.7 198.78,-242.12
3D body: height 16.84, standoff -2.84, extent 210.67,-261.7 230.27,-242.12
3D body: height 16.84, standoff -2.84, extent 242.16,-261.7 261.77,-242.12
3D body: height 16.84, standoff -2.84, extent 21.69,-261.7 41.3,-242.12
3D body: height 16.84, standoff -2.84, extent 53.19,-261.7 72.79,-242.12
3D body: height 16.84, standoff -2.84, extent 84.68,-261.7 104.29,-242.12
3D body: height 16.84, standoff -2.84, extent 116.18,-261.7 135.78,-242.12
3D body: height 16.84, standoff -2.84, extent -104.29,-261.7 -84.69,-242.12
3D body: height 16.84, standoff -2.84, extent -72.8,-261.7 -53.19,-242.12
3D body: height 16.84, standoff -2.84, extent -41.3,-261.7 -21.7,-242.12
3D body: height 16.84, standoff -2.84, extent -9.8,-261.7 9.8,-242.12
3D body: height 16.84, standoff -2.84, extent -230.28,-261.7 -210.67,-242.12
3D body: height 16.84, standoff -2.84, extent -198.78,-261.7 -179.18,-242.12
3D body: height 16.84, standoff -2.84, extent -167.28,-261.7 -147.68,-242.12
3D body: height 16.84, standoff -2.84, extent -135.79,-261.7 -116.19,-242.12
3D body: height 16.84, standoff -2.84, extent -261.77,-261.7 -242.17,-242.12
3D body: height 16.84, standoff -2.84, extent -293.27,-261.7 -273.67,-242.12
3D body: height 16.84, standoff -2.84, extent -324.76,-261.7 -305.16,-242.12
3D body: height 16.84, standoff -2.84, extent -356.26,-261.7 -336.66,-242.12
3D body: height 16.84, standoff -2.84, extent -387.76,-261.7 -368.15,-242.12
3D body: height 16.84, standoff -2.84, extent -387.76,-293.2 -368.15,-273.62
3D body: height 16.84, standoff -2.84, extent -387.76,-324.7 -368.15,-305.11
3D body: height 16.84, standoff -2.84, extent -387.76,-356.19 -368.15,-336.61
3D body: height 16.84, standoff -2.84, extent -387.76,-387.69 -368.15,-368.1
3D body: height 16.84, standoff -2.84, extent -387.76,-104.22 -368.15,-84.64
3D body: height 16.84, standoff -2.84, extent -387.76,-135.72 -368.15,-116.13
3D body: height 16.84, standoff -2.84, extent -387.76,-167.21 -368.15,-147.63
3D body: height 16.84, standoff -2.84, extent -387.76,-198.71 -368.15,-179.13
3D body: height 16.84, standoff -2.84, extent -387.76,-230.21 -368.15,-210.62
3D body: height 16.84, standoff -2.84, extent -387.76,53.26 -368.15,72.84
3D body: height 16.84, standoff -2.84, extent -387.76,21.76 -368.15,41.35
3D body: height 16.84, standoff -2.84, extent -387.76,-9.73 -368.15,9.85
3D body: height 16.84, standoff -2.84, extent -387.76,-41.23 -368.15,-21.65
3D body: height 16.84, standoff -2.84, extent -387.76,-72.73 -368.15,-53.14
3D body: height 16.84, standoff -2.84, extent -387.76,210.74 -368.15,230.32
3D body: height 16.84, standoff -2.84, extent -387.76,179.24 -368.15,198.83
3D body: height 16.84, standoff -2.84, extent -387.76,147.75 -368.15,167.33
3D body: height 16.84, standoff -2.84, extent -387.76,116.25 -368.15,135.83
3D body: height 16.84, standoff -2.84, extent -387.76,84.75 -368.15,104.34
3D body: height 16.84, standoff -2.84, extent -387.76,242.23 -368.15,261.82
3D body: height 16.84, standoff -2.84, extent -387.76,273.73 -368.15,293.31
3D body: height 16.84, standoff -2.84, extent -387.76,305.23 -368.15,324.81
3D body: height 16.84, standoff -2.84, extent -387.76,336.72 -368.15,356.31
3D body: height 59.06, standoff 39.37, extent -409.45,-409.45 409.45,409.45
3D body: height 78.74, standoff 55.12, extent -318.9,-318.9 318.9,318.9